# Altium footprint library prekidac.PcbLib: 1 footprints
Each footprint in its own frame and in the unit in brackets; x right, y up, seen from the top. Pads: shape width x height; smd on the part's side, far side on the other; paste and mask are expansions set on the pad; w line width, h text height; cw(c..) or ccw(c..) is an arc to the next point about the centre after c.
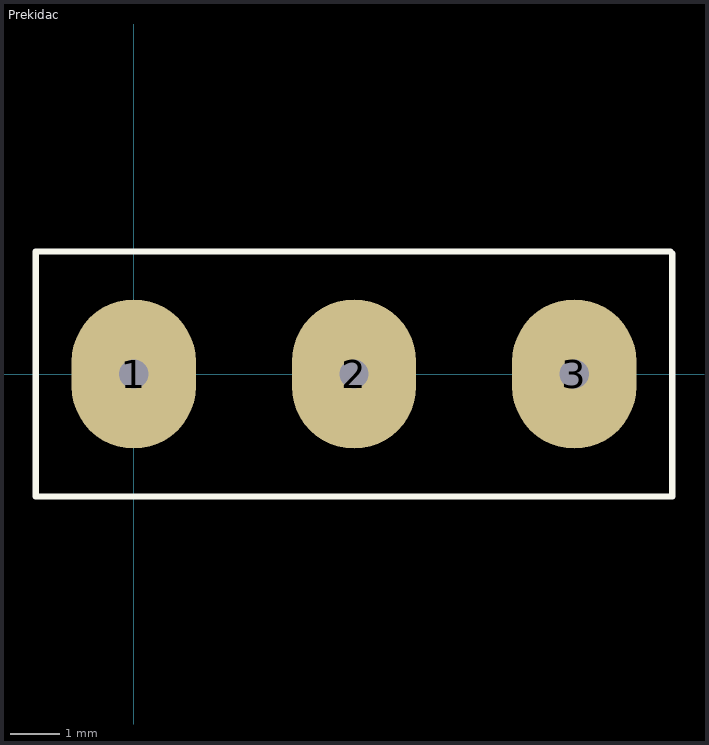
[diagram p0: the footprint, top view; thin cyan lines are the x and y axes]

## Prekidac [mm]
pads (3):
  oval 2.54x3.048 hole 0.6: 1(0,0) 2(4.5,0) 3(9,0)
Top Overlay:
  lines w0.127: 11,-2.5 -2,-2.5 -2,2.5 10.962,2.5 11,2.462 11,-2.46